# EAGLE library part 1-1825059-7 (library ELECTROMECH)
4 x DIP Switch, SPST, DIP, SMD, 100 mA, 24 V
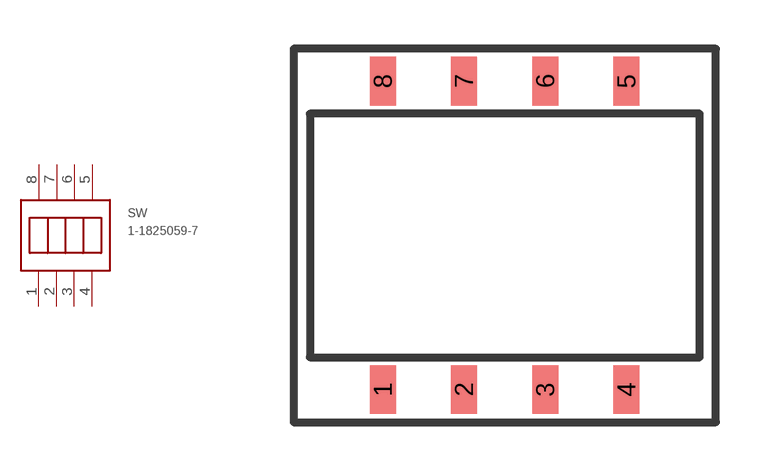
[diagram p2: symbol with the pads of DIP_SWITCH_1-1825059-7; footprint DIP_SWITCH_1-1825059-7]

Designator prefix SW

## 1-1825059-7 (DIGIKEY: 1-1825059-7-ND; HEIGHT: 5; PRICE_PER: 1.16; VALUE: 4 DIP Switch)  [DIP_SWITCH_1-1825059-7]
1  1
2  2
3  3
4  4
5  5
6  6
7  7
8  8

## Footprint DIP_SWITCH_1-1825059-7 (pad centres in mm)
smd 0.8 x 1.5: 1 -3.75,-4.75; 2 -1.25,-4.75; 3 1.25,-4.75; 4 3.75,-4.75; 5 3.75,4.75; 6 1.25,4.75; 7 -1.25,4.75; 8 -3.75,4.75